# Altium schematic symbol library Capacitors.SchLib: 154 symbols
Pins are listed as number, name and electrical type; pins without a type are passive.

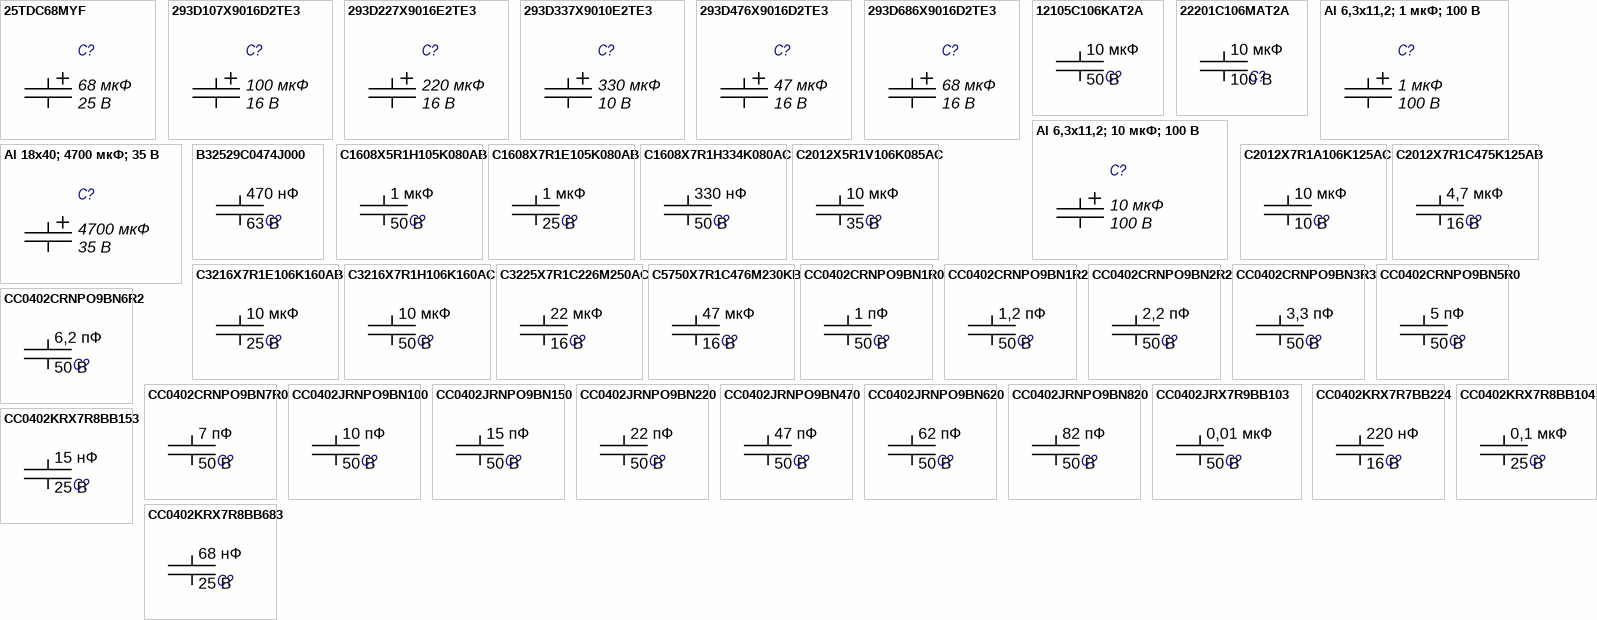
[diagram p0: symbols 25TDC68MYF to CC0402KRX7R8BB683]

## 25TDC68MYF
designator C?, comment Voltage: 25 В  (hidden comment: 68 мкФ)
D; 68 мкФ; 25 В; Part Number: 25TDC68MYF; Manufacturer: Panasonic; Type: Tantalum; Persent: ±20%; ESR: 70 мОм; Package: D; Dielectric: -; Value: 68 мкФ
footprint TANTAL-D
pins: 1, 2

## 293D107X9016D2TE3
designator C?, comment Voltage: 16 В  (hidden comment: 100 мкФ)
D; 100 мкФ; 16 В; Part Number: 293D107X9016D2TE3; Manufacturer: Vishay; Type: Tantalum; Persent: ±10%; ESR: 600 мОм; Package: D; Dielectric: -; Value: 100 мкФ
footprint TANTAL-D
pins: 1, 2

## 293D227X9016E2TE3
designator C?, comment Voltage: 16 В  (hidden comment: 220 мкФ)
D; 220 мкФ; 16 В; Part Number: 293D227X9016E2TE3; Manufacturer: Vishay; Type: Tantalum; Persent: ±10%; Package: E; ESR: -; Dielectric: -; Value: 220 мкФ
footprint TANTAL-E
pins: 1, 2

## 293D337X9010E2TE3
designator C?, comment Voltage: 10 В  (hidden comment: 330 мкФ)
D; 330 мкФ; 16 В; Part Number: 293D337X9010E2TE3; Manufacturer: Vishay; Type: Tantalum; Persent: ±10%; ESR: 500 мОм; Package: E; Dielectric: -; Value: 330 мкФ
footprint TANTAL-E
pins: 1, 2

## 293D476X9016D2TE3
designator C?, comment Voltage: 16 В  (hidden comment: 47 мкФ)
D; 47 мкФ; 16 В; Part Number: 293D476X9016D2TE3; Manufacturer: Vishay; Type: Tantalum; Persent: ±10%; ESR: 700 мОм; Package: D; Dielectric: -; Value: 47 мкФ
footprint TANTAL-D
pins: 1, 2

## 293D686X9016D2TE3
designator C?, comment Voltage: 16 В  (hidden comment: 68 мкФ)
D; 68 мкФ; 16 В; Part Number: 293D686X9016D2TE3; Manufacturer: Vishay; Type: Tantalum; Persent: ±10%; ESR: 600 мОм; Package: D; Dielectric: -; Value: 68 мкФ
footprint TANTAL-D
pins: 1, 2

## 12105C106KAT2A
designator C?, comment Voltage: 50 В  (hidden comment: 10 мкФ)
SMD 1210; X7R; 10 мкФ; 50 В; Part Number: 12105C106KAT2A; Manufacturer: AVX; Persent: ±15%; Type: Ceramic; Package: SMD 1210; Dielectric: X7R; ComponentLink1Description: Datasheet; Value: 10 мкФ
footprint C1210C
pins: 1, 2

## 22201C106MAT2A
designator C?, comment Voltage: 100 В  (hidden comment: 10 мкФ)
SMD 2220 ; X7R; 10 мкФ; 100 В; Part Number: 22201C106MAT2A; Manufacturer: AVX; Persent: ±15%; Type: Ceramic; Package: SMD 2220; Dielectric: X7R; ComponentLink1Description: Datasheet; Value: 10 мкФ
footprint C2220C
pins: 1, 2

## Al 6,3x11,2; 1 мкФ; 100 В
designator C?, comment Voltage: 100 В  (hidden comment: 1 мкФ)
Al 6,3x11,2; 1 мкФ; 100 В; Type: Aluminum; Persent: ±20%; Part Number: -; Package: 6,3x11,2; ESR: -; Manufacturer: -; Value: 1 мкФ
footprint AL_6,3X11,2
pins: 1, 2

## Al 6,3x11,2; 10 мкФ; 100 В
designator C?, comment Voltage: 100 В  (hidden comment: 10 мкФ)
Al 6,3x11,2; 10 мкФ; 100 В; Type: Aluminum; Persent: ±20%; Part Number: -; Package: 6,3x11,2; ESR: -; Manufacturer: -; Value: 10 мкФ
footprint AL_6,3X11,2
pins: 1, 2

## Al 18x40; 4700 мкФ; 35 В
designator C?, comment Voltage: 35 В  (hidden comment: 4700 мкФ)
Al 18x40; 4700 мкФ; 35 В; Type: Aluminum; Persent: ±20%; Part Number: -; Package: 18x40; ESR: -; Manufacturer: -; Value: 4700 мкФ
footprint AL_18x40
pins: 1, 2

## B32529C0474J000
designator C?, comment Voltage: 63 В  (hidden comment: 470 нФ)
TH; B32529; 470 нФ; 63 В; Part Number: B32529C0474J000; Manufacturer: EPCOS; Persent: ±5%; Dielectric: PET; Type: Film; Package: B32529; ComponentLink1Description: Datasheet; Value: 470 нФ
footprint TH_B32529
pins: 1, 2

## C1608X5R1H105K080AB
designator C?, comment Voltage: 50 В  (hidden comment: 1 мкФ)
SMD 0603 ; X5R; 1 мкФ; 50 В; Part Number: C1608X5R1H105K080AB; Manufacturer: TDK; Persent: ±15%; Type: Ceramic; Package: SMD 0603; Dielectric: X5R; ComponentLink1Description: Datasheet; Value: 1 мкФ
footprint C0603C
pins: 1, 2

## C1608X7R1E105K080AB
designator C?, comment Voltage: 25 В  (hidden comment: 1 мкФ)
SMD 0603 ; X7R; 1 мкФ; 25 В; Part Number: C1608X7R1E105K080AB; Manufacturer: TDK; Persent: ±15%; Type: Ceramic; Package: SMD 0603; Dielectric: X7R; ComponentLink1Description: Datasheet; Value: 1 мкФ
footprint C0603C
pins: 1, 2

## C1608X7R1H334K080AC
designator C?, comment Voltage: 50 В  (hidden comment: 330 нФ)
SMD 0603 ; X7R; 330 нФ; 50 В; Part Number: C1608X7R1H334K080AC; Manufacturer: TDK; Persent: ±15%; Type: Ceramic; Package: SMD 0603; Dielectric: X7R; ComponentLink1Description: Datasheet; Value: 330 нФ
footprint C0603C
pins: 1, 2

## C2012X5R1V106K085AC
designator C?, comment Voltage: 35 В  (hidden comment: 10 мкФ)
SMD 0805; X5R; 10 мкФ; 35 В; Part Number: C2012X5R1V106K085AC; Manufacturer: TDK; Persent: ±15%; Type: Ceramic; Package: SMD 0805; Dielectric: X5R; ComponentLink1Description: Datasheet; Value: 10 мкФ
footprint C0805C
pins: 1, 2

## C2012X7R1A106K125AC
designator C?, comment Voltage: 10 В  (hidden comment: 10 мкФ)
SMD 0805; X7R; 10 мкФ; 10 В; Part Number: C2012X7R1A106K125AC; Manufacturer: TDK; Persent: ±15%; Type: Ceramic; Package: SMD 0805; Dielectric: X7R; ComponentLink1Description: Datasheet; Value: 10 мкФ
footprint C0805C
pins: 1, 2

## C2012X7R1C475K125AB
designator C?, comment Voltage: 16 В  (hidden comment: 4,7 мкФ)
SMD 0805; X7R; 4,7 мкФ; 16 В; Part Number: C2012X7R1C475K125AB; Manufacturer: TDK; Persent: ±15%; Type: Ceramic; Package: SMD 0805; Dielectric: X7R; ComponentLink1Description: Datasheet; Value: 4,7 мкФ
footprint C0805C
pins: 1, 2

## C3216X7R1E106K160AB
designator C?, comment Voltage: 25 В  (hidden comment: 10 мкФ)
SMD 1206; X7R; 10 мкФ; 25 В; Part Number: C3216X7R1E106K160AB; Manufacturer: TDK; Persent: ±15%; Type: Ceramic; Package: SMD 1206; Dielectric: X7R; ComponentLink1Description: Datasheet; Value: 10 мкФ
footprint C1206C
pins: 1, 2

## C3216X7R1H106K160AC
designator C?, comment Voltage: 50 В  (hidden comment: 10 мкФ)
SMD 1206; X7R; 10 мкФ; 50 В; Part Number: C3216X7R1H106K160AC; Manufacturer: TDK; Persent: ±15%; Type: Ceramic; Package: SMD 1206; Dielectric: X7R; ComponentLink1Description: Datasheet; Value: 10 мкФ
footprint C1206C
pins: 1, 2

## C3225X7R1C226M250AC
designator C?, comment Voltage: 16 В  (hidden comment: 22 мкФ)
SMD 1210; X7R; 22 мкФ; 16 В; Part Number: C3225X7R1C226M250AC; Manufacturer: TDK; Persent: ±15%; Type: Ceramic; Package: SMD 1210; Dielectric: X7R; ComponentLink1Description: Datasheet; Value: 22 мкФ
footprint C1210C
pins: 1, 2

## C5750X7R1C476M230KB
designator C?, comment Voltage: 16 В  (hidden comment: 47 мкФ)
SMD 2220 ; X7R; 47 мкФ; 16 В; Part Number: C5750X7R1C476M230KB; Manufacturer: TDK; Persent: ±15%; Type: Ceramic; Package: SMD 2220; Dielectric: X7R; ComponentLink1Description: Datasheet; Value: 47 мкФ
footprint C2220C
pins: 1, 2

## CC0402CRNPO9BN1R0
designator C?, comment Voltage: 50 В  (hidden comment: 1 пФ)
SMD 0402 ; C0G(NP0); 1 пФ; 50 В; Part Number: CC0402CRNPO9BN1R0; Manufacturer: YAGEO; Persent: ±15%; Type: Ceramic; Package: SMD 0402; Dielectric: C0G(NP0); ComponentLink1Description: Datasheet; Value: 1 пФ
footprint C0402C
pins: 1, 2

## CC0402CRNPO9BN1R2
designator C?, comment Voltage: 50 В  (hidden comment: 1,2 пФ)
SMD 0402 ; C0G(NP0); 1,2 пФ; 50 В; Part Number: CC0402CRNPO9BN1R2; Manufacturer: YAGEO; Persent: ±15%; Type: Ceramic; Package: SMD 0402; Dielectric: C0G(NP0); ComponentLink1Description: Datasheet; Value: 1,2 пФ
footprint C0402C
pins: 1, 2

## CC0402CRNPO9BN2R2
designator C?, comment Voltage: 50 В  (hidden comment: 2,2 пФ)
SMD 0402 ; C0G(NP0); 2,2 пФ; 50 В; Part Number: CC0402CRNPO9BN2R2; Manufacturer: YAGEO; Persent: ±15%; Type: Ceramic; Package: SMD 0402; Dielectric: C0G(NP0); ComponentLink1Description: Datasheet; Value: 2,2 пФ
footprint C0402C
pins: 1, 2

## CC0402CRNPO9BN3R3
designator C?, comment Voltage: 50 В  (hidden comment: 3,3 пФ)
SMD 0402 ; C0G(NP0); 3,3 пФ; 50 В; Part Number: CC0402CRNPO9BN3R3; Manufacturer: YAGEO; Persent: ±15%; Type: Ceramic; Package: SMD 0402; Dielectric: C0G(NP0); ComponentLink1Description: Datasheet; Value: 3,3 пФ
footprint C0402C
pins: 1, 2

## CC0402CRNPO9BN5R0
designator C?, comment Voltage: 50 В  (hidden comment: 5 пФ)
SMD 0402 ; C0G(NP0); 5 пФ; 50 В; Part Number: CC0402CRNPO9BN5R0; Manufacturer: YAGEO; Persent: ±15%; Type: Ceramic; Package: SMD 0402; Dielectric: C0G(NP0); ComponentLink1Description: Datasheet; Value: 5 пФ
footprint C0402C
pins: 1, 2

## CC0402CRNPO9BN6R2
designator C?, comment Voltage: 50 В  (hidden comment: 6,2 пФ)
SMD 0402 ; C0G(NP0); 6,2 пФ; 50 В; Part Number: CC0402CRNPO9BN6R2; Manufacturer: YAGEO; Persent: ±15%; Type: Ceramic; Package: SMD 0402; Dielectric: C0G(NP0); ComponentLink1Description: Datasheet; Value: 6,2 пФ
footprint C0402C
pins: 1, 2

## CC0402CRNPO9BN7R0
designator C?, comment Voltage: 50 В  (hidden comment: 7 пФ)
SMD 0402 ; C0G(NP0); 7 пФ; 50 В; Part Number: CC0402CRNPO9BN7R0; Manufacturer: YAGEO; Persent: ±15%; Type: Ceramic; Package: SMD 0402; Dielectric: C0G(NP0); ComponentLink1Description: Datasheet; Value: 7 пФ
footprint C0402C
pins: 1, 2

## CC0402JRNPO9BN100
designator C?, comment Voltage: 50 В  (hidden comment: 10 пФ)
SMD 0402 ; C0G(NP0); 10 пФ; 50 В; Part Number: CC0402JRNPO9BN100; Manufacturer: YAGEO; Persent: ±15%; Type: Ceramic; Package: SMD 0402; Dielectric: C0G(NP0); ComponentLink1Description: Datasheet; Value: 10 пФ
footprint C0402C
pins: 1, 2

## CC0402JRNPO9BN150
designator C?, comment Voltage: 50 В  (hidden comment: 15 пФ)
SMD 0402 ; C0G(NP0); 15 пФ; 50 В; Part Number: CC0402JRNPO9BN150; Manufacturer: YAGEO; Persent: ±15%; Type: Ceramic; Package: SMD 0402; Dielectric: C0G(NP0); ComponentLink1Description: Datasheet; Value: 15 пФ
footprint C0402C
pins: 1, 2

## CC0402JRNPO9BN220
designator C?, comment Voltage: 50 В  (hidden comment: 22 пФ)
SMD 0402 ; C0G(NP0); 22 пФ; 50 В; Part Number: CC0402JRNPO9BN220; Manufacturer: YAGEO; Persent: ±15%; Type: Ceramic; Package: SMD 0402; Dielectric: C0G(NP0); ComponentLink1Description: Datasheet; Value: 22 пФ
footprint C0402C
pins: 1, 2

## CC0402JRNPO9BN470
designator C?, comment Voltage: 50 В  (hidden comment: 47 пФ)
SMD 0402 ; C0G(NP0); 47 пФ; 50 В; Part Number: CC0402JRNPO9BN470; Manufacturer: YAGEO; Persent: ±15%; Type: Ceramic; Package: SMD 0402; Dielectric: C0G(NP0); ComponentLink1Description: Datasheet; Value: 47 пФ
footprint C0402C
pins: 1, 2

## CC0402JRNPO9BN620
designator C?, comment Voltage: 50 В  (hidden comment: 62 пФ)
SMD 0402 ; C0G(NP0); 62 пФ; 50 В; Part Number: CC0402JRNPO9BN620; Manufacturer: YAGEO; Persent: ±15%; Type: Ceramic; Package: SMD 0402; Dielectric: C0G(NP0); ComponentLink1Description: Datasheet; Value: 62 пФ
footprint C0402C
pins: 1, 2

## CC0402JRNPO9BN820
designator C?, comment Voltage: 50 В  (hidden comment: 82 пФ)
SMD 0402 ; C0G(NP0); 82 пФ; 50 В; Part Number: CC0402JRNPO9BN820; Manufacturer: YAGEO; Persent: ±15%; Type: Ceramic; Package: SMD 0402; Dielectric: C0G(NP0); ComponentLink1Description: Datasheet; Value: 82 пФ
footprint C0402C
pins: 1, 2

## CC0402JRX7R9BB103
designator C?, comment Voltage: 50 В  (hidden comment: 0,01 мкФ)
SMD 0402 ; X7R; 0,01 мкФ; 50 В; Part Number: CC0402JRX7R9BB103; Manufacturer: YAGEO; Persent: ±15%; Type: Ceramic; Package: SMD 0402; Dielectric: X7R; ComponentLink1Description: Datasheet; Value: 0,01 мкФ
footprint C0402C
pins: 1, 2

## CC0402KRX7R7BB224
designator C?, comment Voltage: 16 В  (hidden comment: 220 нФ)
SMD 0402 ; X7R; 220 нФ; 16 В; Part Number: CC0402KRX7R7BB224; Manufacturer: YAGEO; Persent: ±15%; Type: Ceramic; Package: SMD 0402; Dielectric: X7R; ComponentLink1Description: Datasheet; Value: 220 нФ
footprint C0402C
pins: 1, 2

## CC0402KRX7R8BB104
designator C?, comment Voltage: 25 В  (hidden comment: 0,1 мкФ)
SMD 0402 ; X7R; 0,1 мкФ; 25 В; Part Number: CC0402KRX7R8BB104; Manufacturer: YAGEO; Persent: ±15%; Type: Ceramic; Package: SMD 0402; Dielectric: X7R; ComponentLink1Description: Datasheet; Value: 0,1 мкФ
footprint C0402C
pins: 1, 2

## CC0402KRX7R8BB153
designator C?, comment Voltage: 25 В  (hidden comment: 15 нФ)
SMD 0402 ; X7R; 15 нФ; 25 В; Part Number: CC0402KRX7R8BB153; Manufacturer: YAGEO; Persent: ±15%; Type: Ceramic; Package: SMD 0402; Dielectric: X7R; ComponentLink1Description: Datasheet; Value: 15 нФ
footprint C0402C
pins: 1, 2

## CC0402KRX7R8BB683
designator C?, comment Voltage: 25 В  (hidden comment: 68 нФ)
SMD 0402 ; X7R; 68 нФ; 25 В; Part Number: CC0402KRX7R8BB683; Manufacturer: YAGEO; Persent: ±15%; Type: Ceramic; Package: SMD 0402; Dielectric: X7R; ComponentLink1Description: Datasheet; Value: 68 нФ
footprint C0402C
pins: 1, 2

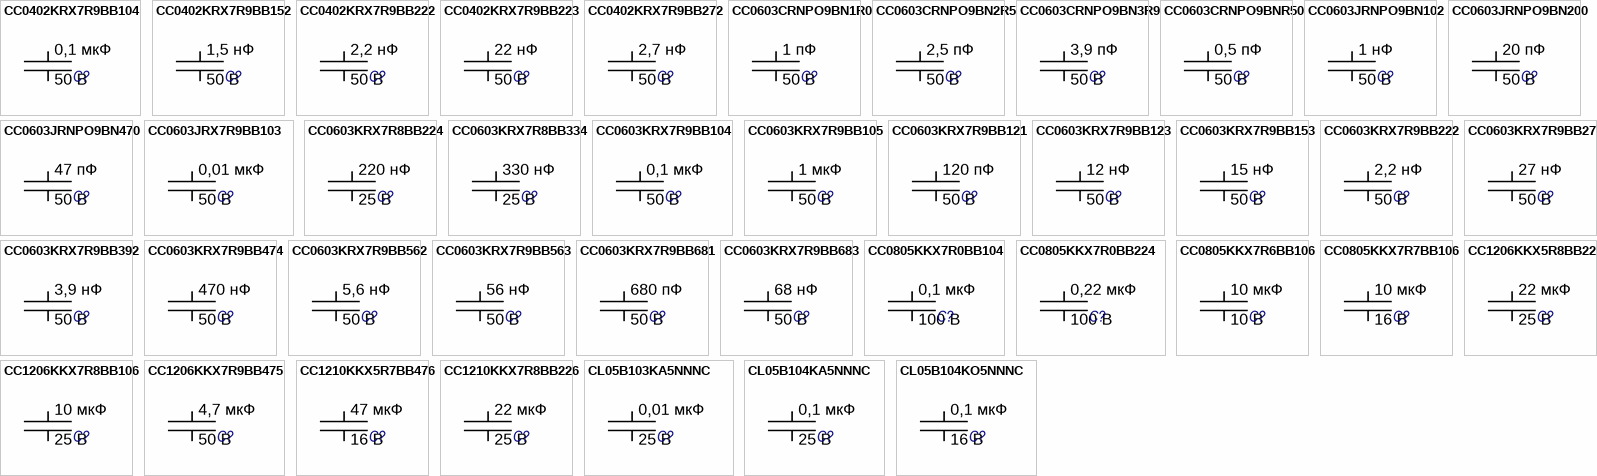
[diagram p1: symbols CC0402KRX7R9BB104 to CL05B104KO5NNNC]

## CC0402KRX7R9BB104
designator C?, comment Voltage: 50 В  (hidden comment: 0,1 мкФ)
SMD 0402 ; X7R; 0,1 мкФ; 50 В; Part Number: CC0402KRX7R9BB104; Manufacturer: YAGEO; Persent: ±15%; Type: Ceramic; Package: SMD 0402; Dielectric: X7R; ComponentLink1Description: Datasheet; Value: 0,1 мкФ
footprint C0402C
pins: 1, 2

## CC0402KRX7R9BB152
designator C?, comment Voltage: 50 В  (hidden comment: 1,5 нФ)
SMD 0402 ; X7R; 1,5 нФ; 50 В; Part Number: CC0402KRX7R9BB152; Manufacturer: YAGEO; Persent: ±15%; Type: Ceramic; Package: SMD 0402; Dielectric: X7R; ComponentLink1Description: Datasheet; Value: 1,5 нФ
footprint C0402C
pins: 1, 2

## CC0402KRX7R9BB222
designator C?, comment Voltage: 50 В  (hidden comment: 2,2 нФ)
SMD 0402 ; X7R; 2,2 нФ; 50 В; Part Number: CC0402KRX7R9BB222; Manufacturer: YAGEO; Persent: ±15%; Type: Ceramic; Package: SMD 0402; Dielectric: X7R; ComponentLink1Description: Datasheet; Value: 2,2 нФ
footprint C0402C
pins: 1, 2

## CC0402KRX7R9BB223
designator C?, comment Voltage: 50 В  (hidden comment: 22 нФ)
SMD 0402 ; X7R; 22 нФ; 50 В; Part Number: CC0402KRX7R9BB223; Manufacturer: YAGEO; Persent: ±15%; Type: Ceramic; Package: SMD 0402; Dielectric: X7R; ComponentLink1Description: Datasheet; Value: 22 нФ
footprint C0402C
pins: 1, 2

## CC0402KRX7R9BB272
designator C?, comment Voltage: 50 В  (hidden comment: 2,7 нФ)
SMD 0402 ; X7R; 2,7 нФ; 50 В; Part Number: CC0402KRX7R9BB272; Manufacturer: YAGEO; Persent: ±15%; Type: Ceramic; Package: SMD 0402; Dielectric: X7R; ComponentLink1Description: Datasheet; Value: 2,7 нФ
footprint C0402C
pins: 1, 2

## CC0603CRNPO9BN1R0
designator C?, comment Voltage: 50 В  (hidden comment: 1 пФ)
SMD 0603 ; C0G(NP0); 1 пФ; 50 В; Part Number: CC0603CRNPO9BN1R0; Manufacturer: YAGEO; Persent: ±5%; Type: Ceramic; Package: SMD 0603; Dielectric: C0G(NP0); ComponentLink1Description: Datasheet; Value: 1 пФ
footprint C0603C
pins: 1, 2

## CC0603CRNPO9BN2R5
designator C?, comment Voltage: 50 В  (hidden comment: 2,5 пФ)
SMD 0603 ; C0G(NP0); 2,5 пФ; 50 В; Part Number: CC0603CRNPO9BN2R5; Manufacturer: YAGEO; Persent: ±15%; Type: Ceramic; Package: SMD 0603; Dielectric: C0G(NP0); ComponentLink1Description: Datasheet; Value: 2,5 пФ
footprint C0603C
pins: 1, 2

## CC0603CRNPO9BN3R9
designator C?, comment Voltage: 50 В  (hidden comment: 3,9 пФ)
SMD 0603 ; C0G(NP0); 3,9 пФ; 50 В; Part Number: CC0603CRNPO9BN3R9; Manufacturer: YAGEO; Persent: ±5%; Type: Ceramic; Package: SMD 0603; Dielectric: C0G(NP0); ComponentLink1Description: Datasheet; Value: 3,9 пФ
footprint C0603C
pins: 1, 2

## CC0603CRNPO9BNR50
designator C?, comment Voltage: 50 В  (hidden comment: 0,5 пФ)
SMD 0603 ; C0G(NP0); 0,5 пФ; 50 В; Part Number: CC0603CRNPO9BNR50; Manufacturer: YAGEO; Persent: ±15%; Type: Ceramic; Package: SMD 0603; Dielectric: C0G(NP0); ComponentLink1Description: Datasheet; Value: 0,5 пФ
footprint C0603C
pins: 1, 2

## CC0603JRNPO9BN102
designator C?, comment Voltage: 50 В  (hidden comment: 1 нФ)
SMD 0603 ; C0G(NP0); 1 нФ; 50 В; Part Number: CC0603JRNPO9BN102; Manufacturer: YAGEO; Persent: ±5%; Type: Ceramic; Package: SMD 0603; Dielectric: C0G(NP0); ComponentLink1Description: Datasheet; Value: 1 нФ
footprint C0603C
pins: 1, 2

## CC0603JRNPO9BN200
designator C?, comment Voltage: 50 В  (hidden comment: 20 пФ)
SMD 0603 ; C0G(NP0); 20 пФ; 50 В; Part Number: CC0603JRNPO9BN200; Manufacturer: YAGEO; Persent: ±15%; Type: Ceramic; Package: SMD 0603; Dielectric: C0G(NP0); ComponentLink1Description: Datasheet; Value: 20 пФ
footprint C0603C
pins: 1, 2

## CC0603JRNPO9BN470
designator C?, comment Voltage: 50 В  (hidden comment: 47 пФ)
SMD 0603 ; C0G(NP0); 47 пФ; 50 В; Part Number: CC0603JRNPO9BN470; Manufacturer: YAGEO; Persent: ±15%; Type: Ceramic; Package: SMD 0603; Dielectric: C0G(NP0); ComponentLink1Description: Datasheet; Value: 47 пФ
footprint C0603C
pins: 1, 2

## CC0603JRX7R9BB103
designator C?, comment Voltage: 50 В  (hidden comment: 0,01 мкФ)
SMD 0603 ; X7R; 0,01 мкФ; 50 В; Part Number: CC0603JRX7R9BB103; Manufacturer: YAGEO; Persent: ±15%; Type: Ceramic; Package: SMD 0603; Dielectric: X7R; ComponentLink1Description: Datasheet; Value: 0,01 мкФ
footprint C0603C
pins: 1, 2

## CC0603KRX7R8BB224
designator C?, comment Voltage: 25 В  (hidden comment: 220 нФ)
SMD 0603 ; X7R; 220 нФ; 25 В; Part Number: CC0603KRX7R8BB224; Manufacturer: YAGEO; Persent: ±5%; Type: Ceramic; Package: SMD 0603; Dielectric: X7R; ComponentLink1Description: Datasheet; Value: 220 нФ
footprint C0603C
pins: 1, 2

## CC0603KRX7R8BB334
designator C?, comment Voltage: 25 В  (hidden comment: 330 нФ)
SMD 0603 ; X7R; 330 нФ; 25 В; Part Number: CC0603KRX7R8BB334; Manufacturer: YAGEO; Persent: ±5%; Type: Ceramic; Package: SMD 0603; Dielectric: X7R; ComponentLink1Description: Datasheet; Value: 330 нФ
footprint C0603C
pins: 1, 2

## CC0603KRX7R9BB104
designator C?, comment Voltage: 50 В  (hidden comment: 0,1 мкФ)
SMD 0603 ; X7R; 0,1 мкФ; 50 В; Part Number: CC0603KRX7R9BB104; Manufacturer: YAGEO; Persent: ±5%; Type: Ceramic; Package: SMD 0603; Dielectric: X7R; ComponentLink1Description: Datasheet; Value: 0,1 мкФ
footprint C0603C
pins: 1, 2

## CC0603KRX7R9BB105
designator C?, comment Voltage: 50 В  (hidden comment: 1 мкФ)
SMD 0603 ; X7R; 1 мкФ; 50 В; Part Number: CC0603KRX7R9BB105; Manufacturer: YAGEO; Persent: ±5%; Type: Ceramic; Package: SMD 0603; Dielectric: X7R; ComponentLink1Description: Datasheet; Value: 1 мкФ
footprint C0603C
pins: 1, 2

## CC0603KRX7R9BB121
designator C?, comment Voltage: 50 В  (hidden comment: 120 пФ)
SMD 0603 ; X7R; 120 пФ;  50 В; Part Number: CC0603KRX7R9BB121; Manufacturer: YAGEO; Persent: ±15%; Type: Ceramic; Package: SMD 0603; Dielectric: X7R; ComponentLink1Description: Datasheet; Value: 120 пФ
footprint C0603C
pins: 1, 2

## CC0603KRX7R9BB123
designator C?, comment Voltage: 50 В  (hidden comment: 12 нФ)
SMD 0603 ; X7R; 12 нФ; 50 В; Part Number: CC0603KRX7R9BB123; Manufacturer: YAGEO; Persent: ±15%; Type: Ceramic; Package: SMD 0603; Dielectric: X7R; ComponentLink1Description: Datasheet; Value: 12 нФ
footprint C0603C
pins: 1, 2

## CC0603KRX7R9BB153
designator C?, comment Voltage: 50 В  (hidden comment: 15 нФ)
SMD 0603 ; X7R; 15 нФ; 50 В; Part Number: CC0603KRX7R9BB153; Manufacturer: YAGEO; Persent: ±15%; Type: Ceramic; Package: SMD 0603; Dielectric: X7R; ComponentLink1Description: Datasheet; Value: 15 нФ
footprint C0603C
pins: 1, 2

## CC0603KRX7R9BB222
designator C?, comment Voltage: 50 В  (hidden comment: 2,2 нФ)
SMD 0603 ; X7R; 2,2 нФ;  50 В; Part Number: CC0603KRX7R9BB222; Manufacturer: YAGEO; Persent: ±15%; Type: Ceramic; Package: SMD 0603; Dielectric: X7R; ComponentLink1Description: Datasheet; Value: 2,2 нФ
footprint C0603C
pins: 1, 2

## CC0603KRX7R9BB273
designator C?, comment Voltage: 50 В  (hidden comment: 27 нФ)
SMD 0603 ; X7R; 27 нФ; 50 В; Part Number: CC0603KRX7R9BB273; Manufacturer: YAGEO; Persent: ±15%; Type: Ceramic; Package: SMD 0603; Dielectric: X7R; ComponentLink1Description: Datasheet; Value: 27 нФ
footprint C0603C
pins: 1, 2

## CC0603KRX7R9BB392
designator C?, comment Voltage: 50 В  (hidden comment: 3,9 нФ)
SMD 0603 ; C0G(NP0); 3,9 нФ; 50 В; Part Number: CC0603KRX7R9BB392; Manufacturer: YAGEO; Persent: ±5%; Type: Ceramic; Package: SMD 0603; Dielectric: C0G(NP0); ComponentLink1Description: Datasheet; Value: 3,9 нФ
footprint C0603C
pins: 1, 2

## CC0603KRX7R9BB474
designator C?, comment Voltage: 50 В  (hidden comment: 470 нФ)
SMD 0603 ; X7R; 470 нФ; 50 В; Part Number: CC0603KRX7R9BB474; Manufacturer: YAGEO; Persent: ±5%; Type: Ceramic; Package: SMD 0603; Dielectric: X7R; ComponentLink1Description: Datasheet; Value: 470 нФ
footprint C0603C
pins: 1, 2

## CC0603KRX7R9BB562
designator C?, comment Voltage: 50 В  (hidden comment: 5,6 нФ)
SMD 0603 ; X7R; 5,6 нФ;  50 В; Part Number: CC0603KRX7R9BB562; Manufacturer: YAGEO; Persent: ±15%; Type: Ceramic; Package: SMD 0603; Dielectric: X7R; ComponentLink1Description: Datasheet; Value: 5,6 нФ
footprint C0603C
pins: 1, 2

## CC0603KRX7R9BB563
designator C?, comment Voltage: 50 В  (hidden comment: 56 нФ)
SMD 0603 ; X7R; 56 нФ; 50 В; Part Number: CC0603KRX7R9BB563; Manufacturer: YAGEO; Persent: ±10%; Type: Ceramic; Package: SMD 0603; Dielectric: X7R; ComponentLink1Description: Datasheet; Value: 56 нФ
footprint C0603C
pins: 1, 2

## CC0603KRX7R9BB681
designator C?, comment Voltage: 50 В  (hidden comment: 680 пФ)
SMD 0603 ; X7R; 680 пФ;  50 В; Part Number: CC0603KRX7R9BB681; Manufacturer: YAGEO; Persent: ±15%; Type: Ceramic; Package: SMD 0603; Dielectric: X7R; ComponentLink1Description: Datasheet; Value: 680 пФ
footprint C0603C
pins: 1, 2

## CC0603KRX7R9BB683
designator C?, comment Voltage: 50 В  (hidden comment: 68 нФ)
SMD 0603 ; X7R; 68 нФ;  50 В; Part Number: CC0603KRX7R9BB683; Manufacturer: YAGEO; Persent: ±15%; Type: Ceramic; Package: SMD 0603; Dielectric: X7R; ComponentLink1Description: Datasheet; Value: 68 нФ
footprint C0603C
pins: 1, 2

## CC0805KKX7R0BB104
designator C?, comment Voltage: 100 В  (hidden comment: 0,1 мкФ)
SMD 0805; X7R; 0,1 мкФ; 100 В; Part Number: CC0805KKX7R0BB224; Manufacturer: YAGEO; Persent: ±10%; Type: Ceramic; Package: SMD 0805; Dielectric: X7R; ComponentLink1Description: Datasheet; Value: 0,1 мкФ
footprint C0805C
pins: 1, 2

## CC0805KKX7R0BB224
designator C?, comment Voltage: 100 В  (hidden comment: 0,22 мкФ)
SMD 0805; X7R; 0,22 мкФ; 100 В; Part Number: CC0805KKX7R0BB224; Manufacturer: YAGEO; Persent: ±15%; Type: Ceramic; Package: SMD 0805; Dielectric: X7R; ComponentLink1Description: Datasheet; Value: 0,22 мкФ
footprint C0805C
pins: 1, 2

## CC0805KKX7R6BB106
designator C?, comment Voltage: 10 В  (hidden comment: 10 мкФ)
SMD 0805; X7R; 10 мкФ; 10 В; Part Number: CC0805KKX7R6BB106; Manufacturer: YAGEO; Persent: ±15%; Type: Ceramic; Package: SMD 0805; Dielectric: X7R; ComponentLink1Description: Datasheet; Value: 10 мкФ
footprint C0805C
pins: 1, 2

## CC0805KKX7R7BB106
designator C?, comment Voltage: 16 В  (hidden comment: 10 мкФ)
SMD 0805; X7R; 10 мкФ; 16 В; Part Number: CC0805KKX7R7BB106; Manufacturer: YAGEO; Persent: ±15%; Type: Ceramic; Package: SMD 0805; Dielectric: X7R; ComponentLink1Description: Datasheet; Value: 10 мкФ
footprint C0805C
pins: 1, 2

## CC1206KKX5R8BB226
designator C?, comment Voltage: 25 В  (hidden comment: 22 мкФ)
SMD 1206; X5R; 22 мкФ; 25 В; Part Number: CC1206KKX5R8BB226; Manufacturer: YAGEO; Persent: ±15%; Type: Ceramic; Package: SMD 1206; Dielectric: X5R; ComponentLink1Description: Datasheet; Value: 22 мкФ
footprint C1206C
pins: 1, 2

## CC1206KKX7R8BB106
designator C?, comment Voltage: 25 В  (hidden comment: 10 мкФ)
SMD 1206; X7R; 10 мкФ; 25 В; Part Number: CC1206KKX7R8BB106; Manufacturer: YAGEO; Persent: ±15%; Type: Ceramic; Package: SMD 1206; Dielectric: X7R; ComponentLink1Description: Datasheet; Value: 10 мкФ
footprint C1206C
pins: 1, 2

## CC1206KKX7R9BB475
designator C?, comment Voltage: 50 В  (hidden comment: 4,7 мкФ)
SMD 1206; X7R; 4,7 мкФ; 25 В; Part Number: CC1206KKX7R9BB475; Manufacturer: YAGEO; Persent: ±15%; Type: Ceramic; Package: SMD 1206; Dielectric: X7R; ComponentLink1Description: Datasheet; Value: 4,7 мкФ
footprint C1206C
pins: 1, 2

## CC1210KKX5R7BB476
designator C?, comment Voltage: 16 В  (hidden comment: 47 мкФ)
SMD 1210; X5R; 47 мкФ; 16 В; Part Number: CC1210KKX5R7BB476; Manufacturer: YAGEO; Persent: ±15%; Type: Ceramic; Package: SMD 1210; Dielectric: X5R; ComponentLink1Description: Datasheet; Value: 47 мкФ
footprint C1210C
pins: 1, 2

## CC1210KKX7R8BB226
designator C?, comment Voltage: 25 В  (hidden comment: 22 мкФ)
SMD 1210; X7R; 22 мкФ; 25 В; Part Number: CC1210KKX7R8BB226; Manufacturer: YAGEO; Persent: ±15%; Type: Ceramic; Package: SMD 1210; Dielectric: X7R; ComponentLink1Description: Datasheet; Value: 22 мкФ
footprint C1210C
pins: 1, 2

## CL05B103KA5NNNC
designator C?, comment Voltage: 25 В  (hidden comment: 0,01 мкФ)
SMD 0402 ; X7R; 0,01 мкФ; 25 В; Part Number: CL05B103KA5NNNC; Manufacturer: SAMSUNG; Persent: ±10%; Type: Ceramic; Package: SMD 0402; Dielectric: X7R; ComponentLink1Description: Datasheet; Value: 0,01 мкФ
footprint C0402C
pins: 1, 2

## CL05B104KA5NNNC
designator C?, comment Voltage: 25 В  (hidden comment: 0,1 мкФ)
SMD 0402 ; X7R; 0,1 мкФ; 25 В; Part Number: CL05B104KA5NNNC; Manufacturer: SAMSUNG; Persent: ±10%; Type: Ceramic; Package: SMD 0402; Dielectric: X7R; ComponentLink1Description: Datasheet; Value: 0,1 мкФ
footprint C0402C
pins: 1, 2

## CL05B104KO5NNNC
designator C?, comment Voltage: 16 В  (hidden comment: 0,1 мкФ)
SMD 0402 ; X7R; 0,1 мкФ; 16 В; Part Number: CL05B104KO5NNNC; Manufacturer: SAMSUNG; Persent: ±15%; Type: Ceramic; Package: SMD 0402; Dielectric: X7R; ComponentLink1Description: Datasheet; Value: 0,1 мкФ
footprint C0402C
pins: 1, 2

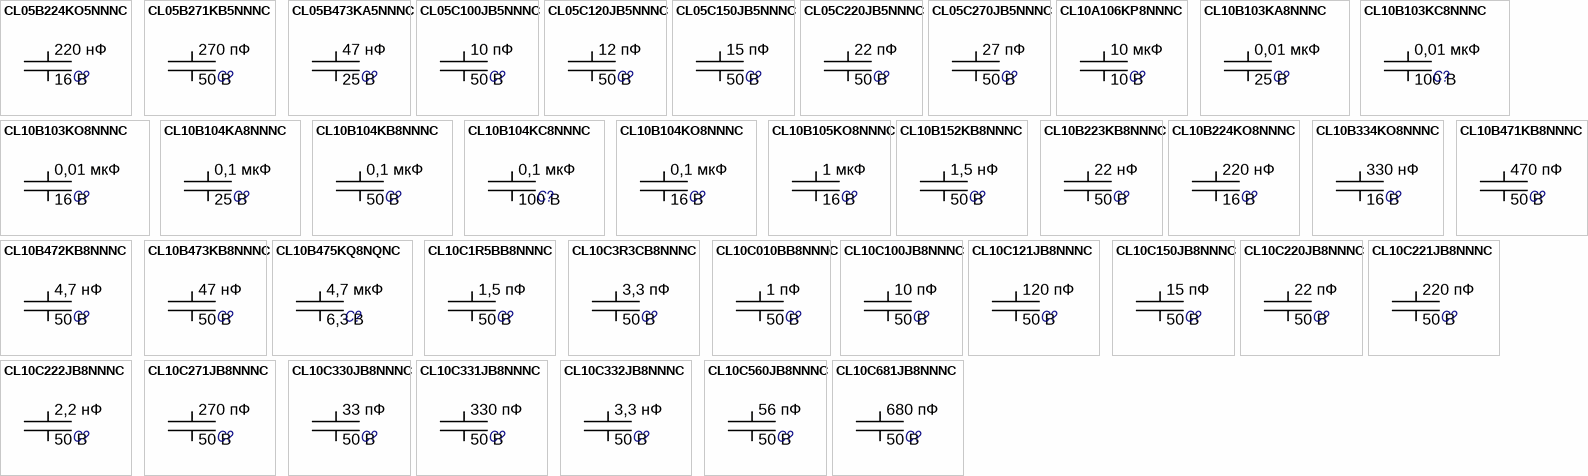
[diagram p2: symbols CL05B224KO5NNNC to CL10C681JB8NNNC]

## CL05B224KO5NNNC
designator C?, comment Voltage: 16 В  (hidden comment: 220 нФ)
SMD 0402 ; X7R; 220 нФ; 16 В; Part Number: CL05B224KO5NNNC; Manufacturer: SAMSUNG; Persent: ±15%; Type: Ceramic; Package: SMD 0402; Dielectric: X7R; ComponentLink1Description: Datasheet; Value: 220 нФ
footprint C0402C
pins: 1, 2

## CL05B271KB5NNNC
designator C?, comment Voltage: 50 В  (hidden comment: 270 пФ)
SMD 0402 ; C0G(NP0); 270 пФ; 50 В; Part Number: CL05B271KB5NNNC; Manufacturer: SAMSUNG; Persent: ±15%; Type: Ceramic; Package: SMD 0402; Dielectric: C0G(NP0); ComponentLink1Description: Datasheet; Value: 270 пФ
footprint C0402C
pins: 1, 2

## CL05B473KA5NNNC
designator C?, comment Voltage: 25 В  (hidden comment: 47 нФ)
SMD 0402 ; X7R; 47 нФ; 25 В; Part Number: CL05B473KA5NNNC; Manufacturer: SAMSUNG; Persent: ±15%; Type: Ceramic; Package: SMD 0402; Dielectric: X7R; ComponentLink1Description: Datasheet; Value: 47 нФ
footprint C0402C
pins: 1, 2

## CL05C100JB5NNNC
designator C?, comment Voltage: 50 В  (hidden comment: 10 пФ)
SMD 0402 ; C0G(NP0); 10 пФ; 50 В; Part Number: CL05C100JB5NNNC; Manufacturer: SAMSUNG; Persent: ±15%; Type: Ceramic; Package: SMD 0402; Dielectric: C0G(NP0); ComponentLink1Description: Datasheet; Value: 10 пФ
footprint C0402C
pins: 1, 2

## CL05C120JB5NNNC
designator C?, comment Voltage: 50 В  (hidden comment: 12 пФ)
SMD 0402 ; C0G(NP0); 12 пФ; 50 В; Part Number: CL05C120JB5NNNC; Manufacturer: SAMSUNG; Persent: ±15%; Type: Ceramic; Package: SMD 0402; Dielectric: C0G(NP0); ComponentLink1Description: Datasheet; Value: 12 пФ
footprint C0402C
pins: 1, 2

## CL05C150JB5NNNC
designator C?, comment Voltage: 50 В  (hidden comment: 15 пФ)
SMD 0402 ; C0G(NP0); 15 пФ; 50 В; Part Number: CL05C150JB5NNNC; Manufacturer: SAMSUNG; Persent: ±15%; Type: Ceramic; Package: SMD 0402; Dielectric: C0G(NP0); ComponentLink1Description: Datasheet; Value: 15 пФ
footprint C0402C
pins: 1, 2

## CL05C220JB5NNNC
designator C?, comment Voltage: 50 В  (hidden comment: 22 пФ)
SMD 0402 ; C0G(NP0); 22 пФ; 50 В; Part Number: CL05C220JB5NNNC; Manufacturer: SAMSUNG; Persent: ±15%; Type: Ceramic; Package: SMD 0402; Dielectric: C0G(NP0); ComponentLink1Description: Datasheet; Value: 22 пФ
footprint C0402C
pins: 1, 2

## CL05C270JB5NNNC
designator C?, comment Voltage: 50 В  (hidden comment: 27 пФ)
SMD 0402 ; C0G(NP0); 27 пФ; 50 В; Part Number: CL05C270JB5NNNC; Manufacturer: SAMSUNG; Persent: ±15%; Type: Ceramic; Package: SMD 0402; Dielectric: C0G(NP0); ComponentLink1Description: Datasheet; Value: 27 пФ
footprint C0402C
pins: 1, 2

## CL10A106KP8NNNC
designator C?, comment Voltage: 10 В  (hidden comment: 10 мкФ)
SMD 0603 ; X5R; 10 мкФ; 10 В; Part Number: CL10A106KP8NNNC; Manufacturer: SAMSUNG; Persent: ±15%; Type: Ceramic; Package: SMD 0603; Dielectric: X5R; ComponentLink1Description: Datasheet; Value: 10 мкФ
footprint C0603C
pins: 1, 2

## CL10B103KA8NNNC
designator C?, comment Voltage: 25 В  (hidden comment: 0,01 мкФ)
SMD 0603 ; X7R; 0,01 мкФ; 25 В; Part Number: CL10B103KA8NNNC; Manufacturer: SAMSUNG; Persent: ±5%; Type: Ceramic; Package: SMD 0603; Dielectric: X7R; ComponentLink1Description: Datasheet; Value: 0,01 мкФ
footprint C0603C
pins: 1, 2

## CL10B103KC8NNNC
designator C?, comment Voltage: 100 В  (hidden comment: 0,01 мкФ)
SMD 0603 ; X7R; 0,01 мкФ; 100 В; Part Number: CL10B103KC8NNNC; Manufacturer: SAMSUNG; Persent: ±15%; Type: Ceramic; Package: SMD 0603; Dielectric: X7R; ComponentLink1Description: Datasheet; Value: 0,01 мкФ
footprint C0603C
pins: 1, 2

## CL10B103KO8NNNC
designator C?, comment Voltage: 16 В  (hidden comment: 0,01 мкФ)
SMD 0603 ; X7R; 0,01 мкФ; 16 В; Part Number: CL10B103KO8NNNC; Manufacturer: SAMSUNG; Persent: ±15%; Type: Ceramic; Package: SMD 0603; Dielectric: X7R; ComponentLink1Description: Datasheet; Value: 0,01 мкФ
footprint C0603C
pins: 1, 2

## CL10B104KA8NNNC
designator C?, comment Voltage: 25 В  (hidden comment: 0,1 мкФ)
SMD 0603 ; X7R; 0,1 мкФ; 25 В; Part Number: CL10B104KA8NNNC; Manufacturer: SAMSUNG; Persent: ±5%; Type: Ceramic; Package: SMD 0603; Dielectric: X7R; ComponentLink1Description: Datasheet; Value: 0,1 мкФ
footprint C0603C
pins: 1, 2

## CL10B104KB8NNNC
designator C?, comment Voltage: 50 В  (hidden comment: 0,1 мкФ)
SMD 0603 ; X7R; 0,1 мкФ; 50 В; Part Number: CL10B104KB8NNNC; Manufacturer: SAMSUNG; Persent: ±5%; Type: Ceramic; Package: SMD 0603; Dielectric: X7R; ComponentLink1Description: Datasheet; Value: 0,1 мкФ
footprint C0603C
pins: 1, 2

## CL10B104KC8NNNC
designator C?, comment Voltage: 100 В  (hidden comment: 0,1 мкФ)
SMD 0603 ; X7R; 0,1 мкФ; 100 В; Part Number: CL10B104KC8NNNC; Manufacturer: SAMSUNG; Persent: ±15%; Type: Ceramic; Package: SMD 0603; Dielectric: X7R; ComponentLink1Description: Datasheet; Value: 0,1 мкФ
footprint C0603C
pins: 1, 2

## CL10B104KO8NNNC
designator C?, comment Voltage: 16 В  (hidden comment: 0,1 мкФ)
SMD 0603 ; X7R; 0,1 мкФ; 16 В; Part Number: CL10B104KO8NNNC_1; Manufacturer: SAMSUNG; Persent: ±15%; Type: Ceramic; Package: SMD 0603; Dielectric: X7R; ComponentLink1Description: Datasheet; Value: 0,1 мкФ
footprint C0603C
pins: 1, 2

## CL10B105KO8NNNC
designator C?, comment Voltage: 16 В  (hidden comment: 1 мкФ)
SMD 0603 ; X7R; 1 мкФ; 16 В; Part Number: CL10B105KO8NNNC; Manufacturer: SAMSUNG; Persent: ±15%; Type: Ceramic; Package: SMD 0603; Dielectric: X7R; ComponentLink1Description: Datasheet; Value: 1 мкФ
footprint C0603C
pins: 1, 2

## CL10B152KB8NNNC
designator C?, comment Voltage: 50 В  (hidden comment: 1,5 нФ)
SMD 0603 ; X7R; 1,5 нФ; 50 В; Part Number: CL10B152KB8NNNC; Manufacturer: SAMSUNG; Persent: ±15%; Type: Ceramic; Package: SMD 0603; Dielectric: X7R; ComponentLink1Description: Datasheet; Value: 1,5 нФ
footprint C0603C
pins: 1, 2

## CL10B223KB8NNNC
designator C?, comment Voltage: 50 В  (hidden comment: 22 нФ)
SMD 0603 ; X7R; 22 нФ; 50 В; Part Number: CL10B223KB8NNNC; Manufacturer: SAMSUNG; Persent: ±5%; Type: Ceramic; Package: SMD 0603; Dielectric: X7R; ComponentLink1Description: Datasheet; Value: 22 нФ
footprint C0603C
pins: 1, 2

## CL10B224KO8NNNC
designator C?, comment Voltage: 16 В  (hidden comment: 220 нФ)
SMD 0603 ; X7R; 220 нФ; 16 В; Part Number: CL10B224KO8NNNC; Manufacturer: SAMSUNG; Persent: ±15%; Type: Ceramic; Package: SMD 0603; Dielectric: X7R; ComponentLink1Description: Datasheet; Value: 220 нФ
footprint C0603C
pins: 1, 2

## CL10B334KO8NNNC
designator C?, comment Voltage: 16 В  (hidden comment: 330 нФ)
SMD 0603 ; X7R; 330 нФ; 16 В; Part Number: CL10B334KO8NNNC; Manufacturer: SAMSUNG; Persent: ±15%; Type: Ceramic; Package: SMD 0603; Dielectric: X7R; ComponentLink1Description: Datasheet; Value: 330 нФ
footprint C0603C
pins: 1, 2

## CL10B471KB8NNNC
designator C?, comment Voltage: 50 В  (hidden comment: 470 пФ)
SMD 0603 ; X7R; 470 пФ; 50 В; Part Number: CL10B471KB8NNNC; Manufacturer: SAMSUNG; Persent: ±15%; Type: Ceramic; Package: SMD 0603; Dielectric: X7R; ComponentLink1Description: Datasheet; Value: 470 пФ
footprint C0603C
pins: 1, 2

## CL10B472KB8NNNC
designator C?, comment Voltage: 50 В  (hidden comment: 4,7 нФ)
SMD 0603 ; X7R; 4,7 нФ; 50 В; Part Number: CL10B472KB8NNNC; Manufacturer: SAMSUNG; Persent: ±15%; Type: Ceramic; Package: SMD 0603; Dielectric: X7R; ComponentLink1Description: Datasheet; Value: 4,7 нФ
footprint C0603C
pins: 1, 2

## CL10B473KB8NNNC
designator C?, comment Voltage: 50 В  (hidden comment: 47 нФ)
SMD 0603 ; X7R; 47 нФ; 50 В; Part Number: CL10B473KB8NNNC; Manufacturer: SAMSUNG; Persent: ±15%; Type: Ceramic; Package: SMD 0603; Dielectric: X7R; ComponentLink1Description: Datasheet; Value: 47 нФ
footprint C0603C
pins: 1, 2

## CL10B475KQ8NQNC
designator C?, comment Voltage: 6,3 В  (hidden comment: 4,7 мкФ)
SMD 0603 ; X7R; 4,7 мкФ; 6,3 В; Part Number: CL10B475KQ8NQNC; Manufacturer: SAMSUNG; Persent: ±15%; Type: Ceramic; Package: SMD 0603; Dielectric: X7R; ComponentLink1Description: Datasheet; Value: 4,7 мкФ
footprint C0603C
pins: 1, 2

## CL10C1R5BB8NNNC
designator C?, comment Voltage: 50 В  (hidden comment: 1,5 пФ)
SMD 0603 ; C0G(NP0); 1,5 пФ; 50 В; Part Number: CL10C1R5BB8NNNC; Manufacturer: SAMSUNG; Persent: ±5%; Type: Ceramic; Package: SMD 0603; Dielectric: C0G(NP0); ComponentLink1Description: Datasheet; Value: 1,5 пФ
footprint C0603C
pins: 1, 2

## CL10C3R3CB8NNNC
designator C?, comment Voltage: 50 В  (hidden comment: 3,3 пФ)
SMD 0603 ; C0G(NP0); 3,3 пФ; 50 В; Part Number: CL10C3R3CB8NNNC; Manufacturer: SAMSUNG; Persent: ±5%; Type: Ceramic; Package: SMD 0603; Dielectric: C0G(NP0); ComponentLink1Description: Datasheet; Value: 3,3 пФ
footprint C0603C
pins: 1, 2

## CL10C010BB8NNNC
designator C?, comment Voltage: 50 В  (hidden comment: 1 пФ)
SMD 0603 ; C0G(NP0); 1 пФ; 50 В; Part Number: CL10C010BB8NNNC; Manufacturer: SAMSUNG; Persent: ±5%; Type: Ceramic; Package: SMD 0603; Dielectric: C0G(NP0); ComponentLink1Description: Datasheet; Value: 1 пФ
footprint C0603C
pins: 1, 2

## CL10C100JB8NNNC
designator C?, comment Voltage: 50 В  (hidden comment: 10 пФ)
SMD 0603 ; C0G(NP0); 10 пФ; 50 В; Part Number: CL10C100JB8NNNC; Manufacturer: SAMSUNG; Persent: ±5%; Type: Ceramic; Package: SMD 0603; Dielectric: C0G(NP0); ComponentLink1Description: Datasheet; Value: 10 пФ
footprint C0603C
pins: 1, 2

## CL10C121JB8NNNC
designator C?, comment Voltage: 50 В  (hidden comment: 120 пФ)
SMD 0603 ; C0G(NP0); 120 пФ; 50 В; Part Number: CL10C121JB8NNNC; Manufacturer: SAMSUNG; Persent: ±5%; Type: Ceramic; Package: SMD 0603; Dielectric: C0G(NP0); ComponentLink1Description: Datasheet; Value: 120 пФ
footprint C0603C
pins: 1, 2

## CL10C150JB8NNNC
designator C?, comment Voltage: 50 В  (hidden comment: 15 пФ)
SMD 0603 ; C0G(NP0); 15 пФ; 50 В; Part Number: CL10C150JB8NNNC; Manufacturer: SAMSUNG; Persent: ±5%; Type: Ceramic; Package: SMD 0603; Dielectric: C0G(NP0); ComponentLink1Description: Datasheet; Value: 15 пФ
footprint C0603C
pins: 1, 2

## CL10C220JB8NNNC
designator C?, comment Voltage: 50 В  (hidden comment: 22 пФ)
SMD 0603 ; C0G(NP0); 22 пФ; 50 В; Part Number: CL10C220JB8NNNC; Manufacturer: SAMSUNG; Persent: ±5%; Type: Ceramic; Package: SMD 0603; Dielectric: C0G(NP0); ComponentLink1Description: Datasheet; Value: 22 пФ
footprint C0603C
pins: 1, 2

## CL10C221JB8NNNC
designator C?, comment Voltage: 50 В  (hidden comment: 220 пФ)
SMD 0603 ; C0G(NP0); 220 пФ; 50 В; Part Number: CL10C221JB8NNNC; Manufacturer: SAMSUNG; Persent: ±5%; Type: Ceramic; Package: SMD 0603; Dielectric: C0G(NP0); ComponentLink1Description: Datasheet; Value: 220 пФ
footprint C0603C
pins: 1, 2

## CL10C222JB8NNNC
designator C?, comment Voltage: 50 В  (hidden comment: 2,2 нФ)
SMD 0603 ; C0G(NP0); 2,2 нФ; 50 В; Part Number: CL10C222JB8NNNC; Manufacturer: SAMSUNG; Persent: ±5%; Type: Ceramic; Package: SMD 0603; Dielectric: C0G(NP0); ComponentLink1Description: Datasheet; Value: 2,2 нФ
footprint C0603C
pins: 1, 2

## CL10C271JB8NNNC
designator C?, comment Voltage: 50 В  (hidden comment: 270 пФ)
SMD 0603 ; C0G(NP0); 270 пФ; 50 В; Part Number: CL10C271JB8NNNC; Manufacturer: SAMSUNG; Persent: ±5%; Type: Ceramic; Package: SMD 0603; Dielectric: C0G(NP0); ComponentLink1Description: Datasheet; Value: 270 пФ
footprint C0603C
pins: 1, 2

## CL10C330JB8NNNC
designator C?, comment Voltage: 50 В  (hidden comment: 33 пФ)
SMD 0603 ; C0G(NP0); 33 пФ; 50 В; Part Number: CL10C330JB8NNNC; Manufacturer: SAMSUNG; Persent: ±5%; Type: Ceramic; Package: SMD 0603; Dielectric: C0G(NP0); ComponentLink1Description: Datasheet; Value: 33 пФ
footprint C0603C
pins: 1, 2

## CL10C331JB8NNNC
designator C?, comment Voltage: 50 В  (hidden comment: 330 пФ)
SMD 0603 ; C0G(NP0); 330 пФ; 50 В; Part Number: CL10C331JB8NNNC; Manufacturer: SAMSUNG; Persent: ±5%; Type: Ceramic; Package: SMD 0603; Dielectric: C0G(NP0); ComponentLink1Description: Datasheet; Value: 330 пФ
footprint C0603C
pins: 1, 2

## CL10C332JB8NNNC
designator C?, comment Voltage: 50 В  (hidden comment: 3,3 нФ)
SMD 0603 ; C0G(NP0); 3,3 нФ; 50 В; Part Number: CL10C332JB8NNNC; Manufacturer: SAMSUNG; Persent: ±5%; Type: Ceramic; Package: SMD 0603; Dielectric: C0G(NP0); ComponentLink1Description: Datasheet; Value: 3,3 нФ
footprint C0603C
pins: 1, 2

## CL10C560JB8NNNC
designator C?, comment Voltage: 50 В  (hidden comment: 56 пФ)
SMD 0603 ; C0G(NP0); 56 пФ; 50 В; Part Number: CL10C560JB8NNNC; Manufacturer: SAMSUNG; Persent: ±5%; Type: Ceramic; Package: SMD 0603; Dielectric: C0G(NP0); ComponentLink1Description: Datasheet; Value: 56 пФ
footprint C0603C
pins: 1, 2

## CL10C681JB8NNNC
designator C?, comment Voltage: 50 В  (hidden comment: 680 пФ)
SMD 0603 ; C0G(NP0); 680 пФ; 50 В; Part Number: CL10C681JB8NNNC; Manufacturer: SAMSUNG; Persent: ±5%; Type: Ceramic; Package: SMD 0603; Dielectric: C0G(NP0); ComponentLink1Description: Datasheet; Value: 680 пФ
footprint C0603C
pins: 1, 2

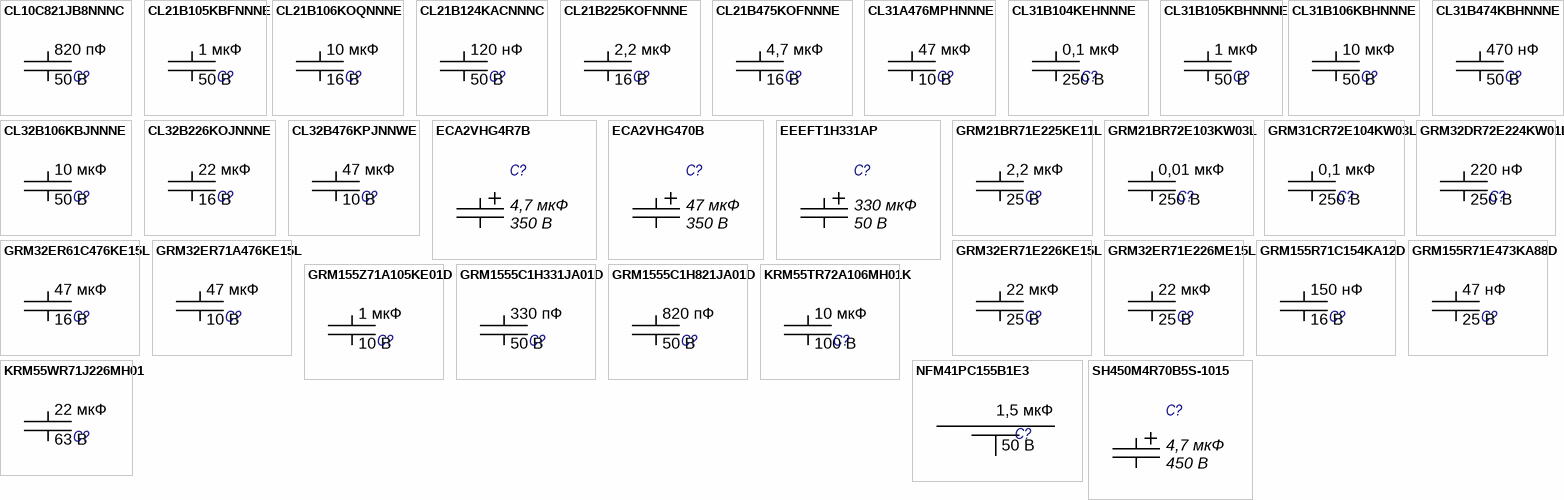
[diagram p3: symbols CL10C821JB8NNNC to SH450M4R70B5S-1015]

## CL10C821JB8NNNC
designator C?, comment Voltage: 50 В  (hidden comment: 820 пФ)
SMD 0603 ; C0G(NP0); 820 пФ; 50 В; Part Number: CL10C821JB8NNNC; Manufacturer: SAMSUNG; Persent: ±5%; Type: Ceramic; Package: SMD 0603; Dielectric: C0G(NP0); ComponentLink1Description: Datasheet; Value: 820 пФ
footprint C0603C
pins: 1, 2

## CL21B105KBFNNNE
designator C?, comment Voltage: 50 В  (hidden comment: 1 мкФ)
SMD 0805; X7R; 1 мкФ; 50 В; Part Number: CL21B105KBFNNNE; Manufacturer: SAMSUNG; Persent: ±15%; Type: Ceramic; Package: SMD 0805; Dielectric: X7R; ComponentLink1Description: Datasheet; Value: 1 мкФ
footprint C0805C
pins: 1, 2

## CL21B106KOQNNNE
designator C?, comment Voltage: 16 В  (hidden comment: 10 мкФ)
SMD 0805; X7R; 10 мкФ; 16 В; Part Number: CL21B106KOQNNNE; Manufacturer: SAMSUNG; Persent: ±15%; Type: Ceramic; Package: SMD 0805; Dielectric: X7R; ComponentLink1Description: Datasheet; Value: 10 мкФ
footprint C0805C
pins: 1, 2

## CL21B124KACNNNC
designator C?, comment Voltage: 50 В  (hidden comment: 120 нФ)
SMD 0805; X7R; 120 нФ; 50 В; Part Number: CL21B124KACNNNC; Manufacturer: SAMSUNG; Persent: ±15%; Type: Ceramic; Package: SMD 0805; Dielectric: X7R; ComponentLink1Description: Datasheet; Value: 120 нФ
footprint C0805C
pins: 1, 2

## CL21B225KOFNNNE
designator C?, comment Voltage: 16 В  (hidden comment: 2,2 мкФ)
SMD 0805; X7R; 2,2 мкФ; 16 В; Part Number: CL21B225KOFNNNE; Manufacturer: SAMSUNG; Persent: ±15%; Type: Ceramic; Package: SMD 0805; Dielectric: X7R; ComponentLink1Description: Datasheet; Value: 2,2 мкФ
footprint C0805C
pins: 1, 2

## CL21B475KOFNNNE
designator C?, comment Voltage: 16 В  (hidden comment: 4,7 мкФ)
SMD 0805; X7R; 4,7 мкФ; 16 В; Part Number: CL21B475KOFNNNE; Manufacturer: SAMSUNG; Persent: ±15%; Type: Ceramic; Package: SMD 0805; Dielectric: X7R; ComponentLink1Description: Datasheet; Value: 4,7 мкФ
footprint C0805C
pins: 1, 2

## CL31A476MPHNNNE
designator C?, comment Voltage: 10 В  (hidden comment: 47 мкФ)
SMD 1206; X5R; 47 мкФ; 10 В; Part Number: CL31A476MPHNNNE; Manufacturer: SAMSUNG; Persent: ±15%; Type: Ceramic; Package: SMD 1206; Dielectric: X5R; ComponentLink1Description: Datasheet; Value: 47 мкФ
footprint C1206C
pins: 1, 2

## CL31B104KEHNNNE
designator C?, comment Voltage: 250 В  (hidden comment: 0,1 мкФ)
SMD 1206; X7R; 0,1 мкФ; 250 В; Part Number: CL31B104KEHNNNE; Manufacturer: SAMSUNG; Persent: ±15%; Type: Ceramic; Package: SMD 1206; Dielectric: X7R; ComponentLink1Description: Datasheet; Value: 0,1 мкФ
footprint C1206C
pins: 1, 2

## CL31B105KBHNNNE
designator C?, comment Voltage: 50 В  (hidden comment: 1 мкФ)
SMD 1206; X7R; 1 мкФ; 50 В; Part Number: CL31B105KBHNNNE; Manufacturer: SAMSUNG; Persent: ±15%; Type: Ceramic; Package: SMD 1206; Dielectric: X7R; ComponentLink1Description: Datasheet; Value: 1 мкФ
footprint C1206C
pins: 1, 2

## CL31B106KBHNNNE
designator C?, comment Voltage: 50 В  (hidden comment: 10 мкФ)
SMD 1206; X7R; 10 мкФ; 50 В; Part Number: CL31B106KBHNNNE; Manufacturer: SAMSUNG; Persent: ±15%; Type: Ceramic; Package: SMD 1206; Dielectric: X7R; ComponentLink1Description: Datasheet; Value: 10 мкФ
footprint C1206C
pins: 1, 2

## CL31B474KBHNNNE
designator C?, comment Voltage: 50 В  (hidden comment: 470 нФ)
SMD 1206; X7R; 470 нФ; 50 В; Part Number: CL31B474KBHNNNE; Manufacturer: SAMSUNG; Persent: ±15%; Type: Ceramic; Package: SMD 1206; Dielectric: X7R; ComponentLink1Description: Datasheet; Value: 470 нФ
footprint C1206C
pins: 1, 2

## CL32B106KBJNNNE
designator C?, comment Voltage: 50 В  (hidden comment: 10 мкФ)
SMD 1210; X7R; 10 мкФ; 50 В; Part Number: CL32B106KBJNNNE; Manufacturer: SAMSUNG; Persent: ±10%; Type: Ceramic; Package: SMD 1210; Dielectric: X7R; ComponentLink1Description: Datasheet; Value: 10 мкФ
footprint C1210C
pins: 1, 2

## CL32B226KOJNNNE
designator C?, comment Voltage: 16 В  (hidden comment: 22 мкФ)
SMD 1210; X7R; 22 мкФ; 16 В; Part Number: CL32B226KOJNNNE; Manufacturer: SAMSUNG; Persent: ±15%; Type: Ceramic; Package: SMD 1210; Dielectric: X7R; ComponentLink1Description: Datasheet; Value: 22 мкФ
footprint C1210C
pins: 1, 2

## CL32B476KPJNNWE
designator C?, comment Voltage: 10 В  (hidden comment: 47 мкФ)
SMD 1210; X7R; 47 мкФ; 10 В; Part Number: CL32B476KPJNNWE; Manufacturer: SAMSUNG; Persent: ±15%; Type: Ceramic; Package: SMD 1210; Dielectric: X7R; ComponentLink1Description: Datasheet; Value: 47 мкФ
footprint C1210C
pins: 1, 2

## ECA2VHG4R7B
designator C?, comment Voltage: 350 В  (hidden comment: 4,7 мкФ)
Al 10x16;  4,7 мкФ; 350 В; Part Number: ECA2VHG4R7B; Manufacturer: Panasonic; Type: Aluminum; Persent: ±20%; Package: 10x16; ESR: -; Value: 4,7 мкФ
footprint AL_10x16 (Footprint not found)
pins: 1, 2

## ECA2VHG470B
designator C?, comment Voltage: 350 В  (hidden comment: 47 мкФ)
Al 16x25;  47 мкФ; 350 В; Part Number: ECA2VHG470B; Manufacturer: Panasonic; Type: Aluminum; Persent: ±20%; Package: 16x25; ESR: -; Value: 47 мкФ
footprint AL_16x25
pins: 1, 2

## EEEFT1H331AP
designator C?, comment Voltage: 50 В  (hidden comment: 330 мкФ)
Al 10x10;  330 мкФ; 50 В; Part Number: EEEFT1H331AP; Manufacturer: Panasonic; Type: Aluminum; Persent: ±20%; ESR: 120 мОм; Package: 10x10; Value: 330 мкФ
footprint AL_10x10
pins: 1, 2

## GRM21BR71E225KE11L
designator C?, comment Voltage: 25 В  (hidden comment: 2,2 мкФ)
SMD 0805; X7R; 2,2 мкФ; 25 В; Part Number: GRM21BR71E225KE11L; Manufacturer: MURATA; Persent: ±15%; Type: Ceramic; Package: SMD 0805; Dielectric: X7R; ComponentLink1Description: Datasheet; Value: 2,2 мкФ
footprint C0805C
pins: 1, 2

## GRM21BR72E103KW03L
designator C?, comment Voltage: 250 В  (hidden comment: 0,01 мкФ)
SMD 0805; X7R; 0,01 мкФ; 250 В; Part Number: GRM21BR72E103KW03L; Manufacturer: MURATA; Persent: ±15%; Type: Ceramic; Package: SMD 0805; Dielectric: X7R; ComponentLink1Description: Datasheet; Value: 0,01 мкФ
footprint C0805C
pins: 1, 2

## GRM31CR72E104KW03L
designator C?, comment Voltage: 250 В  (hidden comment: 0,1 мкФ)
SMD 1206; X7R; 0,1 мкФ; 250 В; Part Number: GRM31CR72E104KW03L; Manufacturer: MURATA; Persent: ±15%; Type: Ceramic; Package: SMD 1206; Dielectric: X7R; ComponentLink1Description: Datasheet; Value: 0,1 мкФ
footprint C1206C
pins: 1, 2

## GRM32DR72E224KW01L
designator C?, comment Voltage: 250 В  (hidden comment: 220 нФ)
SMD 1210; X7R; 220 нФ; 250 В; Part Number: GRM32DR72E224KW01L; Manufacturer: MURATA; Persent: ±15%; Type: Ceramic; Package: SMD 1210; Dielectric: X7R; ComponentLink1Description: Datasheet; Value: 220 нФ
footprint C1210C
pins: 1, 2

## GRM32ER61C476KE15L
designator C?, comment Voltage: 16 В  (hidden comment: 47 мкФ)
SMD 1210; X5R; 47 мкФ; 16 В; Part Number: GRM32ER61C476KE15L; Manufacturer: MURATA; Persent: ±15%; Type: Ceramic; Package: SMD 1210; Dielectric: X5R; ComponentLink1Description: Datasheet; Value: 47 мкФ
footprint C1210C
pins: 1, 2

## GRM32ER71A476KE15L
designator C?, comment Voltage: 10 В  (hidden comment: 47 мкФ)
SMD 1210; X7R; 47 мкФ; 10 В; Part Number: GRM32ER71A476KE15L; Manufacturer: MURATA; Persent: ±15%; Type: Ceramic; Package: SMD 1210; Dielectric: X7R; ComponentLink1Description: Datasheet; Value: 47 мкФ
footprint C1210C
pins: 1, 2

## GRM32ER71E226KE15L
designator C?, comment Voltage: 25 В  (hidden comment: 22 мкФ)
SMD 1210; X7R; 22 мкФ; 25 В; Part Number: GRM32ER71E226KE15L; Manufacturer: MURATA; Persent: ±15%; Type: Ceramic; Package: SMD 1210; Dielectric: X7R; ComponentLink1Description: Datasheet; Value: 22 мкФ
footprint C1210C
pins: 1, 2

## GRM32ER71E226ME15L
designator C?, comment Voltage: 25 В  (hidden comment: 22 мкФ)
SMD 1210; X7R; 22 мкФ; 25 В; Part Number: GRM32ER71E226ME15L; Manufacturer: MURATA; Persent: ±15%; Type: Ceramic; Package: SMD 1210; Dielectric: X7R; ComponentLink1Description: Datasheet; Value: 22 мкФ
footprint C1210C
pins: 1, 2

## GRM155R71C154KA12D
designator C?, comment Voltage: 16 В  (hidden comment: 150 нФ)
SMD 0402 ; X7R; 150 нФ; 16 В; Part Number: GRM155R71C154KA12D; Manufacturer: MURATA; Persent: ±10%; Type: Ceramic; Package: SMD 0402; Dielectric: X7R; ComponentLink1Description: Datasheet; Value: 150 нФ
footprint C0402C
pins: 1, 2

## GRM155R71E473KA88D
designator C?, comment Voltage: 25 В  (hidden comment: 47 нФ)
SMD 0402 ; X7R; 47 нФ; 25 В; Part Number: GRM155R71E473KA88D; Manufacturer: MURATA; Persent: ±10%; Type: Ceramic; Package: SMD 0402; Dielectric: X7R; ComponentLink1Description: Datasheet; Value: 47 нФ
footprint C0402C
pins: 1, 2

## GRM155Z71A105KE01D
designator C?, comment Voltage: 10 В  (hidden comment: 1 мкФ)
SMD 0402 ; X7R; 1 мкФ; 10 В; Part Number: GRM155Z71A105KE01D; Manufacturer: MURATA; Persent: ±10%; Type: Ceramic; Package: SMD 0402; Dielectric: X7R; ComponentLink1Description: Datasheet; Value: 1 мкФ
footprint C0402C
pins: 1, 2

## GRM1555C1H331JA01D
designator C?, comment Voltage: 50 В  (hidden comment: 330 пФ)
SMD 0402 ; C0G(NP0); 330 пФ; 50 В; Part Number: GRM1555C1H331JA01D; Manufacturer: MURATA; Persent: ±15%; Type: Ceramic; Package: SMD 0402; Dielectric: C0G(NP0); ComponentLink1Description: Datasheet; Value: 330 пФ
footprint C0402C
pins: 1, 2

## GRM1555C1H821JA01D
designator C?, comment Voltage: 50 В  (hidden comment: 820 пФ)
SMD 0402 ; C0G(NP0); 820 пФ; 50 В; Part Number: GRM1555C1H821JA01D; Manufacturer: MURATA; Persent: ±15%; Type: Ceramic; Package: SMD 0402; Dielectric: C0G(NP0); ComponentLink1Description: Datasheet; Value: 820 пФ
footprint C0402C
pins: 1, 2

## KRM55TR72A106MH01K
designator C?, comment Voltage: 100 В  (hidden comment: 10 мкФ)
SMD 6,1x5,3x4,8 мм; X7R; 10 мкФ; 100 В; Part Number: KRM55TR72A106MH01K; Manufacturer: MURATA; Persent: ±15%; Type: Ceramic; Package: SMD 6,1x5,3x4,8 мм; Dielectric: X7R; ComponentLink1Description: Datasheet; Value: 10 мкФ
footprint G-55_MUR
pins: 1, 2

## KRM55WR71J226MH01
designator C?, comment Voltage: 63 В  (hidden comment: 22 мкФ)
SMD 6,1x5,3x6,4 мм; X7R; 22 мкФ; 63 В; Part Number: KRM55WR71J226MH01; Manufacturer: MURATA; Persent: ±15%; Type: Ceramic; Package: SMD 6,1x5,3x6,4 мм; Dielectric: X7R; ComponentLink1Description: Datasheet; Value: 22 мкФ
footprint G-55_MUR
pins: 1, 2

## NFM41PC155B1E3
designator C?, comment Voltage: 50 В  (hidden comment: 1,5 мкФ)
NFM41PC; 1,5 мкФ; 50 В Through-pass; Part Number: NFM41PC155B1E3; Manufacturer: MURATA; Package: NFM41PC; Persent: -; Dielectric: -; ComponentLink1Description: Datasheet; Type: Through-pass; Value: 1,5 мкФ
footprint NFM41PC
pins: 1, 2, 3

## SH450M4R70B5S-1015
designator C?, comment Voltage: 450 В  (hidden comment: 4,7 мкФ)
Al 10x15;  4,7 мкФ; 450 В; Part Number: SH450M4R70B5S-1015; Manufacturer: Yageo; Type: Aluminum; Persent: ±20%; Package: 10x15; ESR: -; Value: 4,7 мкФ
footprint AL_10x16 (Footprint not found)
pins: 1, 2